# Altium schematic symbol library Schlib1.SchLib: 8 symbols
Pins are listed as number, name and electrical type; pins without a type are passive.

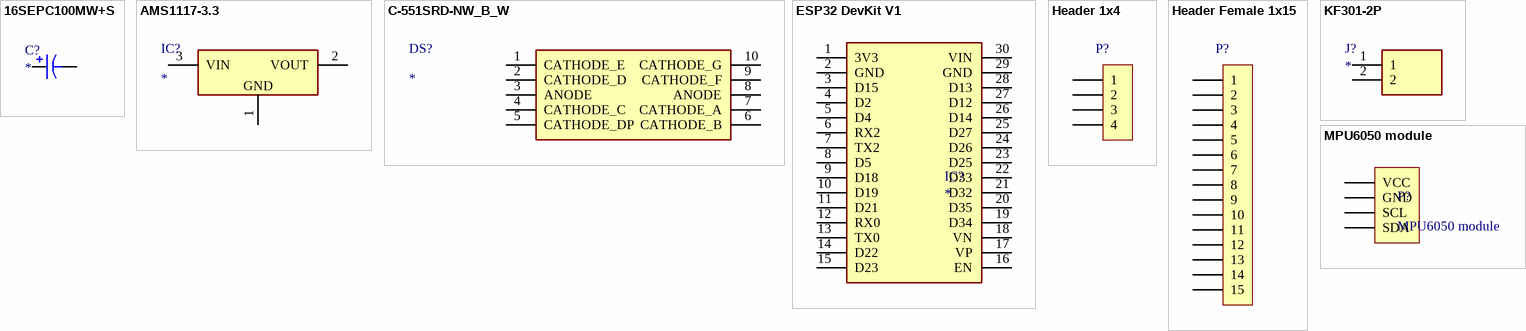
[diagram p0: symbols 16SEPC100MW+S to MPU6050 module]

## 16SEPC100MW+S
designator C?
Capacitor Polarised; Manufacturer_Name: Panasonic; Manufacturer_Part_Number: 16SEPC100MW+S; Datasheet Link: http://industrial.panasonic.com/www-cgi/jvcr13pz.cgi?E+CI+4+AAB8010+16SEPC100MW+8+WW; Height: 9mm; Mouser Part Number: 667-16SEPC100MW+S; Mouser Price/Stock: https://www.mouser.co.uk/ProductDetail/Panasonic/16SEPC100MW%2bS?qs=OE1iw1LrrPGijFXueDJbGQ%3D%3D; Arrow Part Number: 16SEPC100MW+S; Arrow Price/Stock: https://www.arrow.com/en/products/16sepc100mws/panasonic
footprint CAPPRD250W65D630H900
footprint CAPPRD250W65D630H900
pins: 1, 2

## AMS1117-3.3
designator IC?
Integrated Circuit; Manufacturer_Name: Advanced Monolithic Systems; Manufacturer_Part_Number: AMS1117-3.3; Datasheet Link: http://www.advanced-monolithic.com/pdf/ds1117.pdf; Height: 1.8mm
footprint SOT229P700X180-4N
pins: 1 GND, 2 VOUT, 3 VIN

## C-551SRD-NW_B_W
designator DS?
Display; Manufacturer_Name: Para Light Electronics; Manufacturer_Part_Number: C-551SRD-NW B/W; Datasheet Link: http://akizukidenshi.com/download/ds/paralight/C-551SRD.pdf; Height: 8.25mm
footprint DIPS1524W51P254L1270H825Q10N
pins: 1 CATHODE_E, 2 CATHODE_D, 3 ANODE, 4 CATHODE_C, 5 CATHODE_DP, 6 CATHODE_B, 7 CATHODE_A, 8 ANODE, 9 CATHODE_F, 10 CATHODE_G

## ESP32 DevKit V1
designator IC?
footprint ESP32 DevKit V1
pins: 1 3V3, 2 GND, 3 D15, 4 D2, 5 D4, 6 RX2, 7 TX2, 8 D5, 9 D18, 10 D19, 11 D21, 12 RX0, 13 TX0, 14 D22, 15 D23, 16 EN, 17 VP, 18 VN, 19 D34, 20 D35, 21 D32, 22 D33, 23 D25, 24 D26, 25 D27, 26 D14, 27 D12, 28 D13, 29 GND, 30 VIN

## Header 1x4
designator P?  (value not drawn)
Headers & Wire Housings 40Pin 2mm Spacing Single Row Hdrs, 5pc; Manufacturer: Cromax; Manufacturer Part Number: IMP10327; Mounting Angle: Vertical; Number of Positions: 40 Position; Supplier 1: Mult Comercial; RoHS: RoHS Compliant; Category: Headers & Wire Housings; Stock 1: 14; Pricing 1: 1=1.00, 5=0.20 (BRL); Accessory Type: -; Contact Plating: Gold; Contact Type: -; Number of Rows: 1 Row; Product: Headers; Termination Style: Through Hole; Type: Breakaway; Brand: Cromax; Mounting Style: Straight Pin; Pitch: 2 mm; Row Spacing: -; Contact Gender: Pin (Male); Product Category: Accessories; RoHS - Mouser: Y; Minimum Order Quantity: 1; Reeling: False; ComponentLink1URL: http://loja.multcomercial.com.br/barra-de-pinos-simples-1x40-macho-bmo40-1e.html; ComponentLink1Description: http://loja.multcomercial.com.br/barra-de-pinos-simples-1x40-macho-bmo40-1e.html; Supplier Part Number 1: Barra de Pinos Simples 1x40 Macho BMO40-1E
footprint HDR MALE 1x4 (PinHeader 1x4 TH Pitch 2.54mm)
footprint HDR FEMALE 1x4 (Connector; Header; 4 Position)
footprint HDR1X4
footprint Receptor (Connector; Header; 5 Position)
pins: 1, 2, 3 (power), 4 (power)

## Header Female 1x15
designator P?  (value not drawn)
Headers & Wire Housings 40Pin 2mm Spacing Single Row Hdrs, 5pc; Manufacturer: Cromax; Mounting Angle: Vertical; Number of Positions: 40 Position; Supplier 1: -; Manufacturer Part Number: -; RoHS: RoHS Compliant; Category: Headers & Wire Housings; Stock 1: 14; Pricing 1: 1=1.60, 5=0.32 (BRL); Accessory Type: -; Contact Plating: Gold; Contact Type: -; Number of Rows: 1 Row; Product: Headers; Termination Style: Through Hole; Type: Breakaway; Brand: Cromax; Mounting Style: Straight Pin; Pitch: 2 mm; Row Spacing: -; Contact Gender: Pin (Female); Product Category: Accessories; RoHS - Mouser: Y; Minimum Order Quantity: 1; Reeling: False; ComponentLink1URL: -; ComponentLink1Description: -; Supplier Part Number 1: -
footprint HDR FEMALE 1x15
pins: 1, 2, 3 (power), 4 (power), 5, 6, 7 (power), 8 (power), 9, 10, 11 (power), 12 (power), 13, 14, 15 (power)

## KF301-2P
designator J?
Connector; Manufacturer_Name: Handson Technology; Manufacturer_Part_Number: KF301-2P; Datasheet Link: http://www.handsontec.com/dataspecs/terminal%20block-5mm.pdf; Height: 10mm
footprint KF3012P
pins: 1, 2

## MPU6050 module
designator P?
Headers & Wire Housings 36Pin 2mm Spacing Single Row Hdrs, 5pc; Design Item ID: Header Male 1x8; Source: Conectores_SCHLIB.SchLib
footprint Pin Header 1x8 TH Pitch 2.54mm (PinHeader 1x8 TH Pitch 2.54mm)
footprint Pin Header 1x8 TH Pitch 2.54mm (PinHeader 1x8 TH Pitch 2.54mm)
pins: 1 VCC, 2 GND, 3 SCL, 4 SDA